# Altium integrated library TI Power Management Lighting and Display.IntLib: 745 symbols (part 43 of 48)
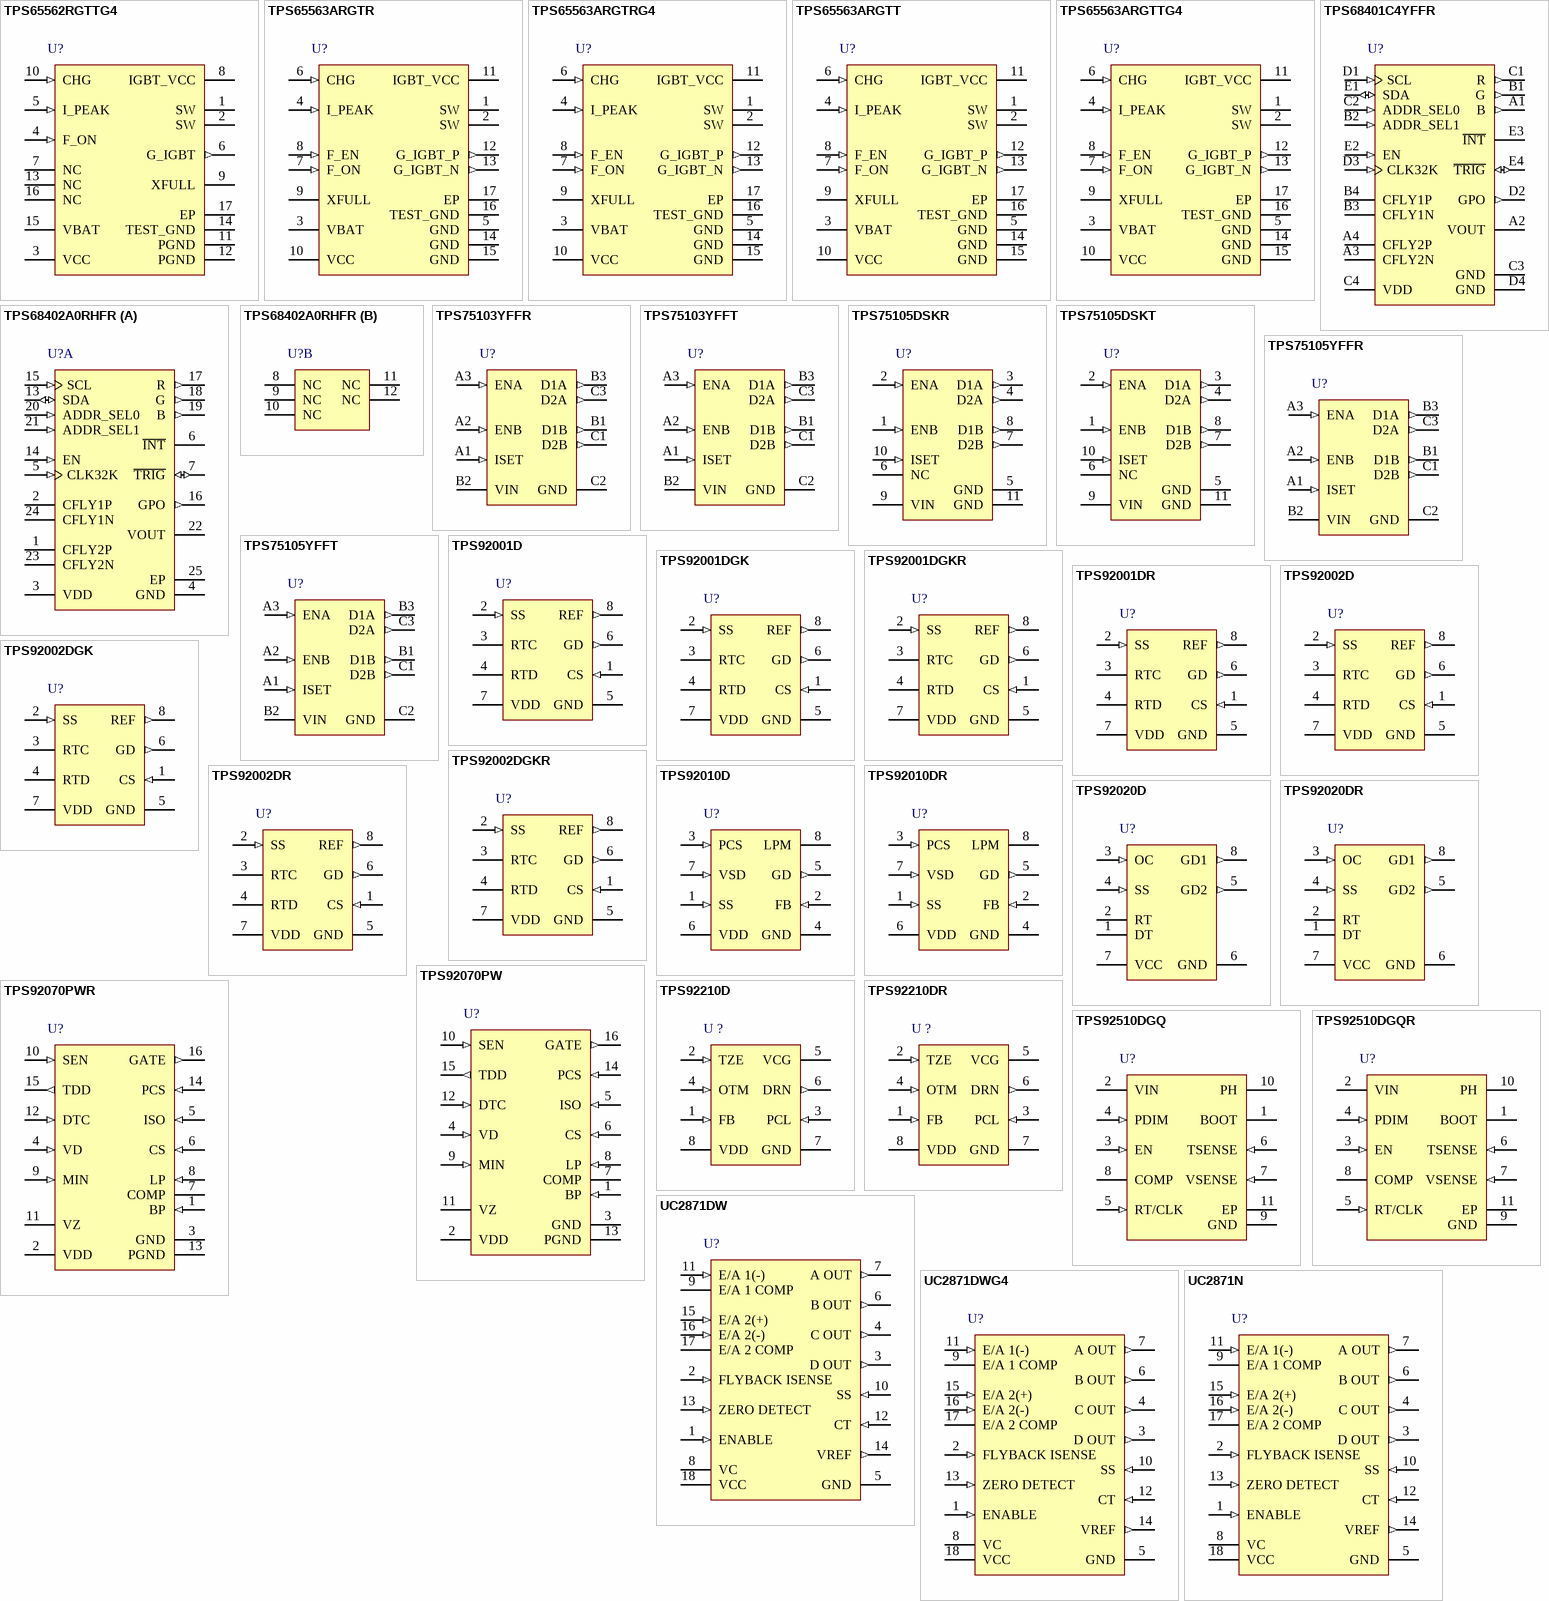
[diagram p73: symbols TPS65562RGTTG4 to UC2871N]

## TPS65562RGTTG4
designator U?
Integrated Photo Flash Charger and IGBT Driver, 2.7 to 4 V, -35 to 85 degC, 16-pin QFN (RGT16), Green (RoHS & no Sb/Br); Manufacturer: Texas Instruments; PartNumber: TPS65562RGTTG4; Rating: Catalog; SubFamily: Photo-Flash Capacitor Charger; Vin(Max)(V): 4; Vin(Min)(V): 2.7; DatasheetVersion: SLVS775; PackageVersion: 4203495/H; PackageReference: RGT16-1650X1650TP; PackageDescription: 16-Pin Plastic Flat Pack, Body 3 x 3 mm, Pitch 0.5 mm; Supplier 1: Digi-Key; Supplier Part Number 1: TPS65562RGTTG4-ND; Supplier 2: Mouser; Supplier Part Number 2: 595-TPS65562RGTTG4; Eco-Plan: Green (RoHS & no Sb/Br); Mounting Technology: Surface Mount; Code_JEDEC: MO-220; ComponentLink1Description: Manufacturer URL; ComponentLink1URL: http://www.ti.com/; ComponentLink2Description: Datasheet; ComponentLink2URL: http://www.ti.com/general/docs/lit/getliterature.tsp?genericPartNumber=TPS65562&fileType=pdf; ComponentLink3Description: Package Specification; ComponentLink3URL: http://www.ti.com/litv/pdf/mpqf119g
footprint TI-RGT16-1650X1650TP_V (QFN, 16-Leads, Body 3x3mm, Pitch 0.5mm, Thermal Pad 1.7x1.7mm)
pins: 1 SW (power) "Primary side switch. Connect SW to the switched side of the transformer", 2 SW (power) "Primary side switch. Connect SW to the switched side of the transformer", 3 VCC (power) "Power supply input. Connect VCC to an input supply from 2.7 V to 4.0 V. Bypass VCC to GND with a 1 uF ceramic capacitor as close as possible to the IC.", 4 F_ON (in) "G_IGBT control input. Drives F_ON with the flash discharge signal. A logic high on F_ON drives G_IGBT high when CHG is Low. See the IGBT driver control section for details.", 5 I_PEAK (in) "Primary side Peak current control input. The voltage at I_PEAK sets the peak current into SW. See the Programming Peak Current section for details on selecting VI_PEAK.", 6 G_IGBT (out) "IGBT gate driver output. G_IGBT swings from PGND to VCC to drive external IGBT devices.", 7 NC "No internal connection", 8 IGBT_VCC (power) "Power supply input for IGBT Driver output. Connect IGBT_VCC to an input supply from 2.7 V to 5.5 V.", 9 XFULL (hiz) "Charge completion indicator output. XFULL is an open-drain output that pulls low once the output is fully charged. XFULL is high impedance during charging and all fault conditions. XFULL is reset when CHG turns Low from High.(See Datasheet)", 10 CHG (in) "Charge control input. Drive CHG high to initiate charging of the output. Drive CHG low to terminate charging.", 11 PGND (power) "Power ground. Connect to the ground plane.", 12 PGND (power) "Power ground. Connect to the ground plane.", 13 NC "No internal connection", 14 TEST_GND (power) "Used by TI, should be connected to PGND and ground plane.", 15 VBAT (power) "Battery voltage monitor input. Connect VBAT to an input supply from 1.6 V to 12 V. Bypass VBAT to GND with a 10 uF ceramic capacitor (C1 in Figure 1 as close as possible to the battery) and a 1 uF ceramic capacitor (C2 in (See Datasheet)", 16 NC "No internal connection", 17 EP "Exposed Thermal Pad"

## TPS65563ARGTR
designator U?
Integrated Photo Flash Charger and IGBT Driver, 2.7 to 5.5 V, -35 to 85 degC, 16-pin QFN (RGT16), Green (RoHS & no Sb/Br); Manufacturer: Texas Instruments; PartNumber: TPS65563ARGTR; Rating: Catalog; SubFamily: Photo-Flash Capacitor Charger; Vin(Max)(V): 5.5; Vin(Min)(V): 2.7; DatasheetVersion: SLVS858A; PackageVersion: 4203495/H; PackageReference: RGT16-1650X1650TP; PackageDescription: 16-Pin Plastic Flat Pack, Body 3 x 3 mm, Pitch 0.5 mm; Supplier 1: Digi-Key; Supplier Part Number 1: 296-23687-2-ND; Supplier 2: Digi-Key; Supplier Part Number 2: 296-23687-1-ND; Supplier 3: Digi-Key; Supplier Part Number 3: 296-23687-6-ND; Supplier 4: Newark; Supplier Part Number 4: 07P9795; Supplier 5: Newark; Supplier Part Number 5: 08P4022; Supplier 6: Mouser; Supplier Part Number 6: 595-TPS65563ARGTR; Eco-Plan: Green (RoHS & no Sb/Br); Mounting Technology: Surface Mount; Code_JEDEC: MO-220; ComponentLink1Description: Manufacturer URL; ComponentLink1URL: http://www.ti.com/; ComponentLink2Description: Datasheet; ComponentLink2URL: http://www.ti.com/general/docs/lit/getliterature.tsp?genericPartNumber=TPS65563A&fileType=pdf; ComponentLink3Description: Package Specification; ComponentLink3URL: http://www.ti.com/litv/pdf/mpqf119g
footprint TI-RGT16-1650X1650TP_V (QFN, 16-Leads, Body 3x3mm, Pitch 0.5mm, Thermal Pad 1.7x1.7mm)
pins: 1 SW (power) "Primary-side power MOSFET switch. Connect SW to the switched side of the transformer.", 2 SW (power) "Primary-side power MOSFET switch. Connect SW to the switched side of the transformer.", 3 VBAT (power) "Battery voltage monitor input for detecting OFF timing of power MOSFET. Connect VBAT to an input voltage from battery. The arrowable range is from 1.4 V to 12 V. Bypass VBAT to GND with a 10-uF ceramic capacitor as close to (See Datasheet)", 4 I_PEAK (in) "Primary-side peak current control input. The voltage at I_PEAK sets the peak current into SW. See the Programming Peak Current section for details on selecting VI_PEAK.", 5 GND (power) "Ground for power and IC internal circuits. Connect to the ground plane.", 6 CHG (in) "Charge enable/disable input. Drive CHG high to start charging the output capacitor. Drive CHG low to terminate charging.", 7 F_ON (in) "Flash enable/disable. High level is xenon flash on with F_EN being high. Low level is xenon flash off even if F_EN is high.", 8 F_EN (in) "Flash acceptable. High level is acceptable to xenon flash on with F_ON pin. Low level forces disable of xenon flash on even if F_ON is high.", 9 XFULL (hiz) "Charge completion indicator. XFULL is an open-drain output that pulls low once the output is fully charged. XFULL is high impedance during charging and all fault conditions. The recovery condition from low to high is to turn (See Datasheet)", 10 VCC (power) "Power supply. VCC is the gate drive supply and IC supply. The allowable range is from 2.7 V to 5.5 V. Bypass VCC to GND with a 1-uF ceramic capacitor as close to the IC as possible.", 11 IGBT_VCC (power) "Power supply for IGBT driver block", 12 G_IGBT_P (out) "IGBT gate driver output for turning on G_IGBT swings from GND to IGBT_VCC to drive external IGBT devices. The external resistor is needed. The value depends on the characteristics of IGBT.", 13 G_IGBT_N (out) "IGBT gate driver output for turning off G_IGBT swings from IGBT_VCC to GND to drive external IGBT devices. The external resistor is needed. The value depends on the characteristics of IGBT.", 14 GND (power) "Ground for power and IC internal circuits. Connect to the ground plane.", 15 GND (power) "Ground for power and IC internal circuits. Connect to the ground plane.", 16 TEST_GND (power) "Used by TI, should be connected to GND and ground plane", 17 EP "Exposed thermal pad"

## TPS65563ARGTRG4
designator U?
Integrated Photo Flash Charger and IGBT Driver, 2.7 to 5.5 V, -35 to 85 degC, 16-pin QFN (RGT16), Green (RoHS & no Sb/Br); Manufacturer: Texas Instruments; PartNumber: TPS65563ARGTRG4; Rating: Catalog; SubFamily: Photo-Flash Capacitor Charger; Vin(Max)(V): 5.5; Vin(Min)(V): 2.7; DatasheetVersion: SLVS858A; PackageVersion: 4203495/H; PackageReference: RGT16-1650X1650TP; PackageDescription: 16-Pin Plastic Flat Pack, Body 3 x 3 mm, Pitch 0.5 mm; Supplier 1: Digi-Key; Supplier Part Number 1: TPS65563ARGTRG4-ND; Supplier 2: Mouser; Supplier Part Number 2: 595-TPS65563ARGTRG4; Eco-Plan: Green (RoHS & no Sb/Br); Mounting Technology: Surface Mount; Code_JEDEC: MO-220; ComponentLink1Description: Manufacturer URL; ComponentLink1URL: http://www.ti.com/; ComponentLink2Description: Datasheet; ComponentLink2URL: http://www.ti.com/general/docs/lit/getliterature.tsp?genericPartNumber=TPS65563A&fileType=pdf; ComponentLink3Description: Package Specification; ComponentLink3URL: http://www.ti.com/litv/pdf/mpqf119g
footprint TI-RGT16-1650X1650TP_V (QFN, 16-Leads, Body 3x3mm, Pitch 0.5mm, Thermal Pad 1.7x1.7mm)
pins: 1 SW (power) "Primary-side power MOSFET switch. Connect SW to the switched side of the transformer.", 2 SW (power) "Primary-side power MOSFET switch. Connect SW to the switched side of the transformer.", 3 VBAT (power) "Battery voltage monitor input for detecting OFF timing of power MOSFET. Connect VBAT to an input voltage from battery. The arrowable range is from 1.4 V to 12 V. Bypass VBAT to GND with a 10-uF ceramic capacitor as close to (See Datasheet)", 4 I_PEAK (in) "Primary-side peak current control input. The voltage at I_PEAK sets the peak current into SW. See the Programming Peak Current section for details on selecting VI_PEAK.", 5 GND (power) "Ground for power and IC internal circuits. Connect to the ground plane.", 6 CHG (in) "Charge enable/disable input. Drive CHG high to start charging the output capacitor. Drive CHG low to terminate charging.", 7 F_ON (in) "Flash enable/disable. High level is xenon flash on with F_EN being high. Low level is xenon flash off even if F_EN is high.", 8 F_EN (in) "Flash acceptable. High level is acceptable to xenon flash on with F_ON pin. Low level forces disable of xenon flash on even if F_ON is high.", 9 XFULL (hiz) "Charge completion indicator. XFULL is an open-drain output that pulls low once the output is fully charged. XFULL is high impedance during charging and all fault conditions. The recovery condition from low to high is to turn (See Datasheet)", 10 VCC (power) "Power supply. VCC is the gate drive supply and IC supply. The allowable range is from 2.7 V to 5.5 V. Bypass VCC to GND with a 1-uF ceramic capacitor as close to the IC as possible.", 11 IGBT_VCC (power) "Power supply for IGBT driver block", 12 G_IGBT_P (out) "IGBT gate driver output for turning on G_IGBT swings from GND to IGBT_VCC to drive external IGBT devices. The external resistor is needed. The value depends on the characteristics of IGBT.", 13 G_IGBT_N (out) "IGBT gate driver output for turning off G_IGBT swings from IGBT_VCC to GND to drive external IGBT devices. The external resistor is needed. The value depends on the characteristics of IGBT.", 14 GND (power) "Ground for power and IC internal circuits. Connect to the ground plane.", 15 GND (power) "Ground for power and IC internal circuits. Connect to the ground plane.", 16 TEST_GND (power) "Used by TI, should be connected to GND and ground plane", 17 EP "Exposed thermal pad"

## TPS65563ARGTT
designator U?
Integrated Photo Flash Charger and IGBT Driver, 2.7 to 5.5 V, -35 to 85 degC, 16-pin QFN (RGT16), Green (RoHS & no Sb/Br); Manufacturer: Texas Instruments; PartNumber: TPS65563ARGTT; Rating: Catalog; SubFamily: Photo-Flash Capacitor Charger; Vin(Max)(V): 5.5; Vin(Min)(V): 2.7; DatasheetVersion: SLVS858A; PackageVersion: 4203495/H; PackageReference: RGT16-1650X1650TP; PackageDescription: 16-Pin Plastic Flat Pack, Body 3 x 3 mm, Pitch 0.5 mm; Supplier 1: Digi-Key; Supplier Part Number 1: 296-32528-2-ND; Supplier 2: Digi-Key; Supplier Part Number 2: 296-32528-1-ND; Supplier 3: Digi-Key; Supplier Part Number 3: 296-32528-6-ND; Supplier 4: Newark; Supplier Part Number 4: 07P9796; Supplier 5: Newark; Supplier Part Number 5: 19P1782; Supplier 6: Mouser; Supplier Part Number 6: 595-TPS65563ARGTT; Eco-Plan: Green (RoHS & no Sb/Br); Mounting Technology: Surface Mount; Code_JEDEC: MO-220; ComponentLink1Description: Manufacturer URL; ComponentLink1URL: http://www.ti.com/; ComponentLink2Description: Datasheet; ComponentLink2URL: http://www.ti.com/general/docs/lit/getliterature.tsp?genericPartNumber=TPS65563A&fileType=pdf; ComponentLink3Description: Package Specification; ComponentLink3URL: http://www.ti.com/litv/pdf/mpqf119g
footprint TI-RGT16-1650X1650TP_V (QFN, 16-Leads, Body 3x3mm, Pitch 0.5mm, Thermal Pad 1.7x1.7mm)
pins: 1 SW (power) "Primary-side power MOSFET switch. Connect SW to the switched side of the transformer.", 2 SW (power) "Primary-side power MOSFET switch. Connect SW to the switched side of the transformer.", 3 VBAT (power) "Battery voltage monitor input for detecting OFF timing of power MOSFET. Connect VBAT to an input voltage from battery. The arrowable range is from 1.4 V to 12 V. Bypass VBAT to GND with a 10-uF ceramic capacitor as close to (See Datasheet)", 4 I_PEAK (in) "Primary-side peak current control input. The voltage at I_PEAK sets the peak current into SW. See the Programming Peak Current section for details on selecting VI_PEAK.", 5 GND (power) "Ground for power and IC internal circuits. Connect to the ground plane.", 6 CHG (in) "Charge enable/disable input. Drive CHG high to start charging the output capacitor. Drive CHG low to terminate charging.", 7 F_ON (in) "Flash enable/disable. High level is xenon flash on with F_EN being high. Low level is xenon flash off even if F_EN is high.", 8 F_EN (in) "Flash acceptable. High level is acceptable to xenon flash on with F_ON pin. Low level forces disable of xenon flash on even if F_ON is high.", 9 XFULL (hiz) "Charge completion indicator. XFULL is an open-drain output that pulls low once the output is fully charged. XFULL is high impedance during charging and all fault conditions. The recovery condition from low to high is to turn (See Datasheet)", 10 VCC (power) "Power supply. VCC is the gate drive supply and IC supply. The allowable range is from 2.7 V to 5.5 V. Bypass VCC to GND with a 1-uF ceramic capacitor as close to the IC as possible.", 11 IGBT_VCC (power) "Power supply for IGBT driver block", 12 G_IGBT_P (out) "IGBT gate driver output for turning on G_IGBT swings from GND to IGBT_VCC to drive external IGBT devices. The external resistor is needed. The value depends on the characteristics of IGBT.", 13 G_IGBT_N (out) "IGBT gate driver output for turning off G_IGBT swings from IGBT_VCC to GND to drive external IGBT devices. The external resistor is needed. The value depends on the characteristics of IGBT.", 14 GND (power) "Ground for power and IC internal circuits. Connect to the ground plane.", 15 GND (power) "Ground for power and IC internal circuits. Connect to the ground plane.", 16 TEST_GND (power) "Used by TI, should be connected to GND and ground plane", 17 EP "Exposed thermal pad"

## TPS65563ARGTTG4
designator U?
Integrated Photo Flash Charger and IGBT Driver, 2.7 to 5.5 V, -35 to 85 degC, 16-pin QFN (RGT16), Green (RoHS & no Sb/Br); Manufacturer: Texas Instruments; PartNumber: TPS65563ARGTTG4; Rating: Catalog; SubFamily: Photo-Flash Capacitor Charger; Vin(Max)(V): 5.5; Vin(Min)(V): 2.7; DatasheetVersion: SLVS858A; PackageVersion: 4203495/H; PackageReference: RGT16-1650X1650TP; PackageDescription: 16-Pin Plastic Flat Pack, Body 3 x 3 mm, Pitch 0.5 mm; Supplier 1: Digi-Key; Supplier Part Number 1: TPS65563ARGTTG4-ND; Supplier 2: Mouser; Supplier Part Number 2: 595-TPS65563ARGTTG4; Eco-Plan: Green (RoHS & no Sb/Br); Mounting Technology: Surface Mount; Code_JEDEC: MO-220; ComponentLink1Description: Manufacturer URL; ComponentLink1URL: http://www.ti.com/; ComponentLink2Description: Datasheet; ComponentLink2URL: http://www.ti.com/general/docs/lit/getliterature.tsp?genericPartNumber=TPS65563A&fileType=pdf; ComponentLink3Description: Package Specification; ComponentLink3URL: http://www.ti.com/litv/pdf/mpqf119g
footprint TI-RGT16-1650X1650TP_V (QFN, 16-Leads, Body 3x3mm, Pitch 0.5mm, Thermal Pad 1.7x1.7mm)
pins: 1 SW (power) "Primary-side power MOSFET switch. Connect SW to the switched side of the transformer.", 2 SW (power) "Primary-side power MOSFET switch. Connect SW to the switched side of the transformer.", 3 VBAT (power) "Battery voltage monitor input for detecting OFF timing of power MOSFET. Connect VBAT to an input voltage from battery. The arrowable range is from 1.4 V to 12 V. Bypass VBAT to GND with a 10-uF ceramic capacitor as close to (See Datasheet)", 4 I_PEAK (in) "Primary-side peak current control input. The voltage at I_PEAK sets the peak current into SW. See the Programming Peak Current section for details on selecting VI_PEAK.", 5 GND (power) "Ground for power and IC internal circuits. Connect to the ground plane.", 6 CHG (in) "Charge enable/disable input. Drive CHG high to start charging the output capacitor. Drive CHG low to terminate charging.", 7 F_ON (in) "Flash enable/disable. High level is xenon flash on with F_EN being high. Low level is xenon flash off even if F_EN is high.", 8 F_EN (in) "Flash acceptable. High level is acceptable to xenon flash on with F_ON pin. Low level forces disable of xenon flash on even if F_ON is high.", 9 XFULL (hiz) "Charge completion indicator. XFULL is an open-drain output that pulls low once the output is fully charged. XFULL is high impedance during charging and all fault conditions. The recovery condition from low to high is to turn (See Datasheet)", 10 VCC (power) "Power supply. VCC is the gate drive supply and IC supply. The allowable range is from 2.7 V to 5.5 V. Bypass VCC to GND with a 1-uF ceramic capacitor as close to the IC as possible.", 11 IGBT_VCC (power) "Power supply for IGBT driver block", 12 G_IGBT_P (out) "IGBT gate driver output for turning on G_IGBT swings from GND to IGBT_VCC to drive external IGBT devices. The external resistor is needed. The value depends on the characteristics of IGBT.", 13 G_IGBT_N (out) "IGBT gate driver output for turning off G_IGBT swings from IGBT_VCC to GND to drive external IGBT devices. The external resistor is needed. The value depends on the characteristics of IGBT.", 14 GND (power) "Ground for power and IC internal circuits. Connect to the ground plane.", 15 GND (power) "Ground for power and IC internal circuits. Connect to the ground plane.", 16 TEST_GND (power) "Used by TI, should be connected to GND and ground plane", 17 EP "Exposed thermal pad"

## TPS68401C4YFFR
designator U?
Multifunction 3-Channel LED Driver, 2.7 to 5.5 V, -30 to 85 degC, 20-pin BGA (YFF20), Green (RoHS & no Sb/Br); Manufacturer: Texas Instruments; PartNumber: TPS68401C4YFFR; Iout(Max)(A): 0.15; Rating: Catalog; SubFamily: White LED Driver; Switching Frequency(Max)(kHz): 1250; Topology: Multi-Channel; Vin(Max)(V): 5.5; Vin(Min)(V): 2.7; DatasheetVersion: SLVSA68A; PackageVersion: 4207625-9/AJ; PackageReference: YFF20; PackageDescription: 20-Ball, Silicon Grid Array, Body Size 2.16 x 1.6 mm, Pitch 0.4 mm; Supplier 1: Digi-Key; Supplier Part Number 1: 296-27427-2-ND; Supplier 2: Digi-Key; Supplier Part Number 2: 296-27427-1-ND; Supplier 3: Digi-Key; Supplier Part Number 3: 296-27427-6-ND; Supplier 4: Mouser; Supplier Part Number 4: 595-TPS68401C4YFFR; Eco-Plan: Green (RoHS & no Sb/Br); Mounting Technology: Surface Mount; ComponentLink1Description: Manufacturer URL; ComponentLink1URL: http://www.ti.com/; ComponentLink2Description: Datasheet; ComponentLink2URL: http://www.ti.com/general/docs/lit/getliterature.tsp?genericPartNumber=TPS68401&fileType=pdf; ComponentLink3Description: Package Specification; ComponentLink3URL: http://www.ti.com/lit/ds/symlink/tps68401.pdf
footprint TI-YFF20-2162X1598DE (BGA, 20-Balls, Body 2.162x1.598mm, Pitch 0.4mm)
pins: A1 B (out) "Current source output, Channel 3 (Blue)", A2 VOUT (power) "Charge pump output", A3 CFLY2N "Negative terminal of charge pump fly capacitor", A4 CFLY2P "Positive terminal of charge pump fly capacitor", B1 G (out) "Current source output, Channel 2 (Green)", B2 ADDR_SEL1 (in) "I2C address select input", B3 CFLY1N "Negative terminal of charge pump fly capacitor", B4 CFLY1P "Positive terminal of charge pump fly capacitor", C1 R (out) "Current source output, Channel 1 (Red)", C2 ADDR_SEL0 (in) "I2C address select input", C3 GND (power) "Ground", C4 VDD (power) "Power pin", D1 SCL (in) "I2C Serial interface clock input", D2 GPO (out) "General purpose output", D3 CLK32K (in) "32.768-kHz clock input - If no clock present on power-up or after RESET, uses internal oscillator", D4 GND (power) "Ground", E1 SDA (io) "I2C Serial interface data input/output (open drain)", E2 EN (in) "Chip enable (active high)", E3 ~{INT} (hiz) "Interrupt output (open drain, active low); Can be configured as push-pull GPO", E4 ~{TRIG} (io) "Trigger input / output (open drain, active low)"

## TPS68402A0RHFR
designator U?
Multifunction 3-Channel LED Driver, 2.7 to 5.5 V, -30 to 85 degC, 24-pin QFN (RHF24), Green (RoHS & no Sb/Br); Manufacturer: Texas Instruments; PartNumber: TPS68402A0RHFR; Iout(Max)(A): 0.15; Rating: Catalog; SubFamily: White LED Driver; Switching Frequency(Max)(kHz): 1250; Topology: Multi-Channel; Vin(Max)(V): 5.5; Vin(Min)(V): 2.7; DatasheetVersion: SLVSA68A; PackageVersion: 4204845-2/H; PackageReference: RHF24-3650X2650TP; PackageDescription: 24-Pin Plastic Flat Pack, Body 4 x 5 mm, Pitch 0.5 mm; Supplier 1: Digi-Key; Supplier Part Number 1: 296-27428-2-ND; Supplier 2: Digi-Key; Supplier Part Number 2: 296-27428-1-ND; Supplier 3: Digi-Key; Supplier Part Number 3: 296-27428-6-ND; Supplier 4: Newark; Supplier Part Number 4: 79R8599; Supplier 5: Mouser; Supplier Part Number 5: 595-TPS68402A0RHFR; Eco-Plan: Green (RoHS & no Sb/Br); Mounting Technology: Surface Mount; Code_JEDEC: MO-220; ComponentLink1Description: Manufacturer URL; ComponentLink1URL: http://www.ti.com/; ComponentLink2Description: Datasheet; ComponentLink2URL: http://www.ti.com/general/docs/lit/getliterature.tsp?genericPartNumber=TPS68402&fileType=pdf; ComponentLink3Description: Package Specification; ComponentLink3URL: http://www.ti.com/litv/pdf/mpqf137g
footprint TI-RHF24-3650X2650TP_V (QFN, 24-Leads, Body 5x4mm, Pitch 0.5mm, Thermal Pad 3.65x2.65mm)
part A pins: 1 CFLY2P "Positive terminal of charge pump fly capacitor", 2 CFLY1P "Positive terminal of charge pump fly capacitor", 3 VDD (power) "Power pin", 4 GND (power) "Ground", 5 CLK32K (in) "32.768-kHz clock input. If no clock present on power-up or after RESET, uses internal oscillator.", 6 ~{INT} (hiz) "Interrupt output (open drain, active low); Can be configured as push-pull GPO.", 7 ~{TRIG} (io) "Trigger input/output (open drain, active low)", 13 SDA (io) "I2C Serial interface data input/output (open drain)", 14 EN (in) "Chip enable (active high)", 15 SCL (in) "I2C Serial interface clock input", 16 GPO (out) "General purpose output.", 17 R (out) "Current source output, Channel 1 (Red)", 18 G (out) "Current source output, Channel 2 (Green)", 19 B (out) "Current source output, Channel 3 (Blue)", 20 ADDR_SEL0 (in) "I2C address select input", 21 ADDR_SEL1 (in) "I2C address select input", 22 VOUT (power) "Charge pump output", 23 CFLY2N "Negative terminal of charge pump fly capacitor", 24 CFLY1N "Negative terminal of charge pump fly capacitor", 25 EP "Exposed Pad"
part B pins: 8 NC "Not connected", 9 NC "Not connected", 10 NC "Not connected", 11 NC "Not connected", 12 NC "Not connected"

## TPS75103YFFR
designator U?
Low Dropout, Two-Bank LED Driver with PWM Brightness Control, 2.7 to 5.5 V, 9-pin BGA (YFF9), Green (RoHS & no Sb/Br); Manufacturer: Texas Instruments; PartNumber: TPS75103YFFR; Dimming: TRUE; Iout(Max)(A): 0.025; Iq(Typ)(mA): 0.18; SubFamily: White LED Driver; Topology: LDO; Vin(Max)(V): 5.5; Vin(Min)(V): 2.7; DatasheetVersion: SBVS080H; PackageVersion: 4207625-6/AK; PackageReference: YFF9; PackageDescription: 9-Ball, Silicon Grid Array, Body Size 1.21 x 1.21 mm, Pitch 0.4 mm; Supplier 1: Digi-Key; Supplier Part Number 1: 296-21284-2-ND; Supplier 2: Digi-Key; Supplier Part Number 2: 296-21284-1-ND; Supplier 3: Mouser; Supplier Part Number 3: 595-TPS75103YFFR; Eco-Plan: Green (RoHS & no Sb/Br); Mounting Technology: Surface Mount; ComponentLink1Description: Manufacturer URL; ComponentLink1URL: http://www.ti.com/; ComponentLink2Description: Datasheet; ComponentLink2URL: http://www.ti.com/general/docs/lit/getliterature.tsp?genericPartNumber=TPS75103&fileType=pdf; ComponentLink3Description: Package Specification; ComponentLink3URL: http://www.ti.com/lit/ds/symlink/tps75105.pdf
footprint TI-YFF9-1208X1208DE (BGA, 9-Balls, Body 1.208x1.208mm, Pitch 0.4mm)
pins: A1 ISET (in) "An optional resistor can be connected between this pin and GND to set the ISET maximum current through the LEDs. If no resistor is connected, ISET defaults to the internally-programmed value.", A2 ENB (in) "Enable pin, Bank B. Driving this pin high turns on the current source to Bank B outputs. Driving this pin low turns off the current source to Bank B outputs. An applied PWM signal reduces the LED current (between 0mA and the (See Datasheet)", A3 ENA (in) "Enable pin, Bank A. Driving this pin high turns on the current source to Bank A outputs. Driving this pin low turns off the current source to Bank A outputs. An applied PWM signal reduces the LED current (between 0mA and the (See Datasheet)", B1 D1B (out) "Diode source current output, Bank B. Connect to LED anode.", B2 VIN (power) "Supply Input", B3 D1A (out) "Diode source current output, Bank A. Connect to LED anode.", C1 D2B (out) "Diode source current output, Bank B. Connect to LED anode.", C2 GND (power) "Ground", C3 D2A (out) "Diode source current output, Bank A. Connect to LED anode."

## TPS75103YFFT
designator U?
Low Dropout, Two-Bank LED Driver with PWM Brightness Control, 2.7 to 5.5 V, 9-pin BGA (YFF9), Green (RoHS & no Sb/Br); Manufacturer: Texas Instruments; PartNumber: TPS75103YFFT; Dimming: TRUE; Iout(Max)(A): 0.025; Iq(Typ)(mA): 0.18; SubFamily: White LED Driver; Topology: LDO; Vin(Max)(V): 5.5; Vin(Min)(V): 2.7; DatasheetVersion: SBVS080H; PackageVersion: 4207625-6/AK; PackageReference: YFF9; PackageDescription: 9-Ball, Silicon Grid Array, Body Size 1.21 x 1.21 mm, Pitch 0.4 mm; Supplier 1: Digi-Key; Supplier Part Number 1: TPS75103YFFT-ND; Supplier 2: Newark; Supplier Part Number 2: 20M5905; Supplier 3: Mouser; Supplier Part Number 3: 595-TPS75103YFFT; Eco-Plan: Green (RoHS & no Sb/Br); Mounting Technology: Surface Mount; ComponentLink1Description: Manufacturer URL; ComponentLink1URL: http://www.ti.com/; ComponentLink2Description: Datasheet; ComponentLink2URL: http://www.ti.com/general/docs/lit/getliterature.tsp?genericPartNumber=TPS75103&fileType=pdf; ComponentLink3Description: Package Specification; ComponentLink3URL: http://www.ti.com/lit/ds/symlink/tps75105.pdf
footprint TI-YFF9-1208X1208DE (BGA, 9-Balls, Body 1.208x1.208mm, Pitch 0.4mm)
pins: A1 ISET (in) "An optional resistor can be connected between this pin and GND to set the ISET maximum current through the LEDs. If no resistor is connected, ISET defaults to the internally-programmed value.", A2 ENB (in) "Enable pin, Bank B. Driving this pin high turns on the current source to Bank B outputs. Driving this pin low turns off the current source to Bank B outputs. An applied PWM signal reduces the LED current (between 0mA and the (See Datasheet)", A3 ENA (in) "Enable pin, Bank A. Driving this pin high turns on the current source to Bank A outputs. Driving this pin low turns off the current source to Bank A outputs. An applied PWM signal reduces the LED current (between 0mA and the (See Datasheet)", B1 D1B (out) "Diode source current output, Bank B. Connect to LED anode.", B2 VIN (power) "Supply Input", B3 D1A (out) "Diode source current output, Bank A. Connect to LED anode.", C1 D2B (out) "Diode source current output, Bank B. Connect to LED anode.", C2 GND (power) "Ground", C3 D2A (out) "Diode source current output, Bank A. Connect to LED anode."

## TPS75105DSKR
designator U?
Low Dropout, Two-Bank LED Driver with PWM Brightness Control, 2.7 to 5.5 V, -40 to 85 degC, 10-pin SON (DSK10), Green (RoHS & no Sb/Br); Manufacturer: Texas Instruments; PartNumber: TPS75105DSKR; Dimming: TRUE; Iout(Max)(A): 0.025; Iq(Typ)(mA): 0.18; SubFamily: White LED Driver; Topology: LDO; Vin(Max)(V): 5.5; Vin(Min)(V): 2.7; DatasheetVersion: SBVS080H; PackageVersion: 4208566/A; PackageReference: DSK10-2000X1200TP; PackageDescription: 10-Pin Plastic Small Outline, Body 2.5 x 2.5 mm, 0.5 mm Pitch; Supplier 1: Digi-Key; Supplier Part Number 1: TPS75105DSKR-ND; Supplier 2: Mouser; Supplier Part Number 2: 595-TPS75105DSKR; Eco-Plan: Green (RoHS & no Sb/Br); Mounting Technology: Surface Mount; ComponentLink1Description: Manufacturer URL; ComponentLink1URL: http://www.ti.com/; ComponentLink2Description: Datasheet; ComponentLink2URL: http://www.ti.com/general/docs/lit/getliterature.tsp?genericPartNumber=TPS75105&fileType=pdf; ComponentLink3Description: Package Specification; ComponentLink3URL: http://www.ti.com/lit/ml/mpds326/mpds326.pdf
footprint TI-DSK10-2000X1200TP_V (SON, 10-Leads, Body 2.5x2.5mm, Pitch 0.5mm, Thermal Pad 1.2X2.0mm)
pins: 1 ENB (in) "Enable pin, Bank B. Driving this pin high turns on the current source to Bank B outputs. Driving this pin low turns off the current source to Bank B outputs. An applied PWM signal reduces the LED current (between 0mA and the (See Datasheet)", 2 ENA (in) "Enable pin, Bank A. Driving this pin high turns on the current source to Bank A outputs. Driving this pin low turns off the current source to Bank A outputs. An applied PWM signal reduces the LED current (between 0mA and the (See Datasheet)", 3 D1A (out) "Diode source current output, Bank A. Connect to LED anode", 4 D2A (out) "Diode source current output, Bank A. Connect to LED anode", 5 GND (power) "Ground", 6 NC "Not connected.", 7 D2B (out) "Diode source current output, Bank B. Connect to LED anode.", 8 D1B (out) "Diode source current output, Bank B. Connect to LED anode.", 9 VIN (power) "Supply Input", 10 ISET (in) "An optional resistor can be connected between this pin and GND to set the maximum current through the LEDs. If no resistor is connected, ISET defaults to the internally-programmed value.", 11 GND (power) "Ground"

## TPS75105DSKT
designator U?
Low Dropout, Two-Bank LED Driver with PWM Brightness Control, 2.7 to 5.5 V, -40 to 85 degC, 10-pin SON (DSK10), Green (RoHS & no Sb/Br); Manufacturer: Texas Instruments; PartNumber: TPS75105DSKT; Dimming: TRUE; Iout(Max)(A): 0.025; Iq(Typ)(mA): 0.18; SubFamily: White LED Driver; Topology: LDO; Vin(Max)(V): 5.5; Vin(Min)(V): 2.7; DatasheetVersion: SBVS080H; PackageVersion: 4208566/A; PackageReference: DSK10-2000X1200TP; PackageDescription: 10-Pin Plastic Small Outline, Body 2.5 x 2.5 mm, 0.5 mm Pitch; Supplier 1: Digi-Key; Supplier Part Number 1: 296-28057-2-ND; Supplier 2: Digi-Key; Supplier Part Number 2: 296-28057-1-ND; Supplier 3: Digi-Key; Supplier Part Number 3: 296-28057-6-ND; Supplier 4: Newark; Supplier Part Number 4: 64R0789; Supplier 5: Mouser; Supplier Part Number 5: 595-TPS75105DSKT; Eco-Plan: Green (RoHS & no Sb/Br); Mounting Technology: Surface Mount; ComponentLink1Description: Manufacturer URL; ComponentLink1URL: http://www.ti.com/; ComponentLink2Description: Datasheet; ComponentLink2URL: http://www.ti.com/general/docs/lit/getliterature.tsp?genericPartNumber=TPS75105&fileType=pdf; ComponentLink3Description: Package Specification; ComponentLink3URL: http://www.ti.com/lit/ml/mpds326/mpds326.pdf
footprint TI-DSK10-2000X1200TP_V (SON, 10-Leads, Body 2.5x2.5mm, Pitch 0.5mm, Thermal Pad 1.2X2.0mm)
pins: 1 ENB (in) "Enable pin, Bank B. Driving this pin high turns on the current source to Bank B outputs. Driving this pin low turns off the current source to Bank B outputs. An applied PWM signal reduces the LED current (between 0mA and the (See Datasheet)", 2 ENA (in) "Enable pin, Bank A. Driving this pin high turns on the current source to Bank A outputs. Driving this pin low turns off the current source to Bank A outputs. An applied PWM signal reduces the LED current (between 0mA and the (See Datasheet)", 3 D1A (out) "Diode source current output, Bank A. Connect to LED anode", 4 D2A (out) "Diode source current output, Bank A. Connect to LED anode", 5 GND (power) "Ground", 6 NC "Not connected.", 7 D2B (out) "Diode source current output, Bank B. Connect to LED anode.", 8 D1B (out) "Diode source current output, Bank B. Connect to LED anode.", 9 VIN (power) "Supply Input", 10 ISET (in) "An optional resistor can be connected between this pin and GND to set the maximum current through the LEDs. If no resistor is connected, ISET defaults to the internally-programmed value.", 11 GND (power) "Ground"

## TPS75105YFFR
designator U?
Low Dropout, Two-Bank LED Driver with PWM Brightness Control, 2.7 to 5.5 V, -40 to 85 degC, 9-pin BGA (YFF9), Green (RoHS & no Sb/Br); Manufacturer: Texas Instruments; PartNumber: TPS75105YFFR; Dimming: TRUE; Iout(Max)(A): 0.025; Iq(Typ)(mA): 0.18; SubFamily: White LED Driver; Topology: LDO; Vin(Max)(V): 5.5; Vin(Min)(V): 2.7; DatasheetVersion: SBVS080H; PackageVersion: 4207625-6/AK; PackageReference: YFF9; PackageDescription: 9-Ball, Silicon Grid Array, Body Size 1.21 x 1.21 mm, Pitch 0.4 mm; Supplier 1: Digi-Key; Supplier Part Number 1: 296-20790-2-ND; Supplier 2: Digi-Key; Supplier Part Number 2: 296-20790-1-ND; Supplier 3: Newark; Supplier Part Number 3: 18M3234; Supplier 4: Mouser; Supplier Part Number 4: 595-TPS75105YFFR; Eco-Plan: Green (RoHS & no Sb/Br); Mounting Technology: Surface Mount; ComponentLink1Description: Manufacturer URL; ComponentLink1URL: http://www.ti.com/; ComponentLink2Description: Datasheet; ComponentLink2URL: http://www.ti.com/general/docs/lit/getliterature.tsp?genericPartNumber=TPS75105&fileType=pdf; ComponentLink3Description: Package Specification; ComponentLink3URL: http://www.ti.com/lit/ds/symlink/tps75105.pdf
footprint TI-YFF9-1208X1208DE (BGA, 9-Balls, Body 1.208x1.208mm, Pitch 0.4mm)
pins: A1 ISET (in) "An optional resistor can be connected between this pin and GND to set the ISET maximum current through the LEDs. If no resistor is connected, ISET defaults to the internally-programmed value.", A2 ENB (in) "Enable pin, Bank B. Driving this pin high turns on the current source to Bank B outputs. Driving this pin low turns off the current source to Bank B outputs. An applied PWM signal reduces the LED current (between 0mA and the (See Datasheet)", A3 ENA (in) "Enable pin, Bank A. Driving this pin high turns on the current source to Bank A outputs. Driving this pin low turns off the current source to Bank A outputs. An applied PWM signal reduces the LED current (between 0mA and the (See Datasheet)", B1 D1B (out) "Diode source current output, Bank B. Connect to LED anode.", B2 VIN (power) "Supply Input", B3 D1A (out) "Diode source current output, Bank A. Connect to LED anode.", C1 D2B (out) "Diode source current output, Bank B. Connect to LED anode.", C2 GND (power) "Ground", C3 D2A (out) "Diode source current output, Bank A. Connect to LED anode."

## TPS75105YFFT
designator U?
Low Dropout, Two-Bank LED Driver with PWM Brightness Control, 2.7 to 5.5 V, -40 to 85 degC, 9-pin BGA (YFF9), Green (RoHS & no Sb/Br); Manufacturer: Texas Instruments; PartNumber: TPS75105YFFT; Dimming: TRUE; Iout(Max)(A): 0.025; Iq(Typ)(mA): 0.18; SubFamily: White LED Driver; Topology: LDO; Vin(Max)(V): 5.5; Vin(Min)(V): 2.7; DatasheetVersion: SBVS080H; PackageVersion: 4207625-6/AK; PackageReference: YFF9; PackageDescription: 9-Ball, Silicon Grid Array, Body Size 1.21 x 1.21 mm, Pitch 0.4 mm; Supplier 1: Digi-Key; Supplier Part Number 1: TPS75105YFFT-ND; Supplier 2: Farnell; Supplier Part Number 2: 1563522; Supplier 3: Newark; Supplier Part Number 3: 18M3235; Supplier 4: Mouser; Supplier Part Number 4: 595-TPS75105YFFT; Eco-Plan: Green (RoHS & no Sb/Br); Mounting Technology: Surface Mount; ComponentLink1Description: Manufacturer URL; ComponentLink1URL: http://www.ti.com/; ComponentLink2Description: Datasheet; ComponentLink2URL: http://www.ti.com/general/docs/lit/getliterature.tsp?genericPartNumber=TPS75105&fileType=pdf; ComponentLink3Description: Package Specification; ComponentLink3URL: http://www.ti.com/lit/ds/symlink/tps75105.pdf
footprint TI-YFF9-1208X1208DE (BGA, 9-Balls, Body 1.208x1.208mm, Pitch 0.4mm)
pins: A1 ISET (in) "An optional resistor can be connected between this pin and GND to set the ISET maximum current through the LEDs. If no resistor is connected, ISET defaults to the internally-programmed value.", A2 ENB (in) "Enable pin, Bank B. Driving this pin high turns on the current source to Bank B outputs. Driving this pin low turns off the current source to Bank B outputs. An applied PWM signal reduces the LED current (between 0mA and the (See Datasheet)", A3 ENA (in) "Enable pin, Bank A. Driving this pin high turns on the current source to Bank A outputs. Driving this pin low turns off the current source to Bank A outputs. An applied PWM signal reduces the LED current (between 0mA and the (See Datasheet)", B1 D1B (out) "Diode source current output, Bank B. Connect to LED anode.", B2 VIN (power) "Supply Input", B3 D1A (out) "Diode source current output, Bank A. Connect to LED anode.", C1 D2B (out) "Diode source current output, Bank B. Connect to LED anode.", C2 GND (power) "Ground", C3 D2A (out) "Diode source current output, Bank A. Connect to LED anode."

## TPS92001D
designator U?
General Purpose PWM Controller with 10V Turn-on Threshold for LED Lighting, -40 to 85 degC, 8-pin SOIC (D8), Green (RoHS & no Sb/Br); Manufacturer: Texas Instruments; PartNumber: TPS92001D; Frequency(Max)(kHz): 1000; Rating: Catalog; SubFamily: LED Driver, Lighting and Display Solutions, White LED Driver; Topology: Flyback; DatasheetVersion: SLUSA24A; PackageVersion: 4040047-3/M; PackageReference: D8; PackageDescription: 8-Pin Plastic Small Outline, Body 4.9 x 3.9 mm, Pitch 1.27 mm; Supplier 1: Digi-Key; Supplier Part Number 1: TPS92001D-ND; Supplier 2: Newark; Supplier Part Number 2: 72R6682; Supplier 3: Mouser; Supplier Part Number 3: 595-TPS92001D; Eco-Plan: Green (RoHS & no Sb/Br); Mounting Technology: Surface Mount; Code_JEDEC: MS-012; ComponentLink1Description: Manufacturer URL; ComponentLink1URL: http://www.ti.com/; ComponentLink2Description: Datasheet; ComponentLink2URL: http://www.ti.com/general/docs/lit/getliterature.tsp?genericPartNumber=TPS92001&fileType=pdf; ComponentLink3Description: Package Specification; ComponentLink3URL: http://www.ti.com/litv/pdf/msoi002j
footprint TI-D8_N (SOIC, 8-Leads, Body 4.9x3.9mm, Pitch 1.27mm, IPC Medium Density)
footprint TI-D8_L (SOIC, 8-Leads, Body 4.9x3.9mm, Pitch 1.27mm, IPC High Density)
footprint TI-D8_M (SOIC, 8-Leads, Body 4.9x3.9mm, Pitch 1.27mm, IPC Low Density)
pins: 1 CS (in) "This pin is the summing node for current sense feedback, voltage sense feedback (by optocoupler) and slope compensation. Slope compensation is derived from the rising voltage at the timing capacitor and can be buffered with (See Datasheet)", 2 SS (in) "This pin serves two functions. The soft start timing capacitor connects to SS and is charged by an internal 6-µA current source. Under normal soft-start, the SS pin is discharged to at least 0.4 V and then ramps positive to (See Datasheet)", 3 RTC "This pin connects to timing resistor RRTC , and controls the positive ramp (rise) time of the internal oscillator (see Equation 1). The positive threshold of the internal oscillator is sensed through inactive timing resistor (See Datasheet)", 4 RTD "This pin connects to timing resistor RTD and controls the negative ramp (fall) time of the internal oscillator (see Equation 2). The negative threshold of the internal oscillator is sensed through inactive timing resistor (See Datasheet)", 5 GND (power) "Reference ground and power ground for all functions.", 6 GD (out) "This pin is the high current power driver output. A minimum series gate resistor of 3.9 ohm is recommended to limit the gate drive current when operating with high-bias voltages.", 7 VDD (power) "The power input connection for this device. This pin is shunt regulated at 17.5 V which is sufficiently below the voltage rating of the DMOS output driver stage. VDD should be bypassed with a 1-uF ceramic capacitor.", 8 REF (out) "The internal 5-V reference output. This reference is buffered and is available on the REF pin. The REF pin should be bypassed with a 0.47-uF ceramic capacitor to GND."

## TPS92001DGK
designator U?
General Purpose PWM Controller with 10V Turn-on Threshold for LED Lighting, -40 to 85 degC, 8-pin SOP (DGK8), Green (RoHS & no Sb/Br); Manufacturer: Texas Instruments; PartNumber: TPS92001DGK; Frequency(Max)(kHz): 1000; Rating: Catalog; SubFamily: LED Driver, Lighting and Display Solutions, White LED Driver; Topology: Flyback; DatasheetVersion: SLUSA24A; PackageVersion: 4073329/E; PackageReference: DGK8; PackageDescription: 8-Pin Thin Small Outline Package 3 x 3 mm Body ,0.65 mm Pitch; Supplier 1: Digi-Key; Supplier Part Number 1: 296-34657-5-ND; Supplier 2: Newark; Supplier Part Number 2: 72R6683; Supplier 3: Mouser; Supplier Part Number 3: 595-TPS92001DGK; Eco-Plan: Green (RoHS & no Sb/Br); Mounting Technology: Surface Mount; Code_JEDEC: MO-187; ComponentLink1Description: Manufacturer URL; ComponentLink1URL: http://www.ti.com/; ComponentLink2Description: Datasheet; ComponentLink2URL: http://www.ti.com/general/docs/lit/getliterature.tsp?genericPartNumber=TPS92001&fileType=pdf; ComponentLink3Description: Package Specification; ComponentLink3URL: http://www.ti.com/litv/pdf/mpds028d
footprint TI-DGK8_N (SOP, 8-Leads, Body 3x3mm, Pitch 0.65mm, IPC Medium Density)
footprint TI-DGK8_L (SOP, 8-Leads, Body 3x3mm, Pitch 0.65mm, IPC High Density)
footprint TI-DGK8_M (SOP, 8-Leads, Body 3x3mm, Pitch 0.65mm, IPC Low Density)
pins: 1 CS (in) "This pin is the summing node for current sense feedback, voltage sense feedback (by optocoupler) and slope compensation. Slope compensation is derived from the rising voltage at the timing capacitor and can be buffered with (See Datasheet)", 2 SS (in) "This pin serves two functions. The soft start timing capacitor connects to SS and is charged by an internal 6-uA current source. Under normal soft-start, the SS pin is discharged to at least 0.4 V and then ramps positive to (See Datasheet)", 3 RTC "This pin connects to timing resistor RRTC , and controls the positive ramp (rise) time of the internal oscillator. The positive threshold of the internal oscillator is sensed through inactive timing resistor RRTD which RTC 3 (See Datasheet)", 4 RTD "This pin connects to timing resistor RTD and controls the negative ramp (fall) time of the internal oscillator.The negative threshold of the internal oscillator is sensed through inactive timing resistor RRTC which RTD 4 I (See Datasheet)", 5 GND (power) "Reference ground and power ground for all functions.", 6 GD (out) "This pin is the high current power driver output. A minimum series gate resistor of 3.9 ohm is recommended to limit the gate drive current when operating with high-bias voltages.", 7 VDD (power) "The power input connection for this device. This pin is shunt regulated at 17.5 V which is sufficiently below the voltage rating of the DMOS output driver stage. VDD should be bypassed with a 1-uF ceramic capacitor.", 8 REF (out) "The internal 5-V reference output. This reference is buffered and is available on the REF pin. The REF pin should be bypassed with a 0.47-uF ceramic capacitor to GND."

## TPS92001DGKR
designator U?
General Purpose PWM Controller with 10V Turn-on Threshold for LED Lighting, -40 to 85 degC, 8-pin SOP (DGK8), Green (RoHS & no Sb/Br); Manufacturer: Texas Instruments; PartNumber: TPS92001DGKR; Frequency(Max)(kHz): 1000; Rating: Catalog; SubFamily: LED Driver, Lighting and Display Solutions, White LED Driver; Topology: Flyback; DatasheetVersion: SLUSA24A; PackageVersion: 4073329/E; PackageReference: DGK8; PackageDescription: 8-Pin Thin Small Outline Package 3 x 3 mm Body ,0.65 mm Pitch; Supplier 1: Digi-Key; Supplier Part Number 1: 296-25886-2-ND; Supplier 2: Digi-Key; Supplier Part Number 2: 296-25886-1-ND; Supplier 3: Digi-Key; Supplier Part Number 3: 296-25886-6-ND; Supplier 4: Newark; Supplier Part Number 4: 72R6684; Supplier 5: Mouser; Supplier Part Number 5: 595-TPS92001DGKR; Eco-Plan: Green (RoHS & no Sb/Br); Mounting Technology: Surface Mount; Code_JEDEC: MO-187; ComponentLink1Description: Manufacturer URL; ComponentLink1URL: http://www.ti.com/; ComponentLink2Description: Datasheet; ComponentLink2URL: http://www.ti.com/general/docs/lit/getliterature.tsp?genericPartNumber=TPS92001&fileType=pdf; ComponentLink3Description: Package Specification; ComponentLink3URL: http://www.ti.com/litv/pdf/mpds028d
footprint TI-DGK8_N (SOP, 8-Leads, Body 3x3mm, Pitch 0.65mm, IPC Medium Density)
footprint TI-DGK8_L (SOP, 8-Leads, Body 3x3mm, Pitch 0.65mm, IPC High Density)
footprint TI-DGK8_M (SOP, 8-Leads, Body 3x3mm, Pitch 0.65mm, IPC Low Density)
pins: 1 CS (in) "This pin is the summing node for current sense feedback, voltage sense feedback (by optocoupler) and slope compensation. Slope compensation is derived from the rising voltage at the timing capacitor and can be buffered with (See Datasheet)", 2 SS (in) "This pin serves two functions. The soft start timing capacitor connects to SS and is charged by an internal 6-uA current source. Under normal soft-start, the SS pin is discharged to at least 0.4 V and then ramps positive to (See Datasheet)", 3 RTC "This pin connects to timing resistor RRTC , and controls the positive ramp (rise) time of the internal oscillator. The positive threshold of the internal oscillator is sensed through inactive timing resistor RRTD which RTC 3 (See Datasheet)", 4 RTD "This pin connects to timing resistor RTD and controls the negative ramp (fall) time of the internal oscillator.The negative threshold of the internal oscillator is sensed through inactive timing resistor RRTC which RTD 4 I (See Datasheet)", 5 GND (power) "Reference ground and power ground for all functions.", 6 GD (out) "This pin is the high current power driver output. A minimum series gate resistor of 3.9 ohm is recommended to limit the gate drive current when operating with high-bias voltages.", 7 VDD (power) "The power input connection for this device. This pin is shunt regulated at 17.5 V which is sufficiently below the voltage rating of the DMOS output driver stage. VDD should be bypassed with a 1-uF ceramic capacitor.", 8 REF (out) "The internal 5-V reference output. This reference is buffered and is available on the REF pin. The REF pin should be bypassed with a 0.47-uF ceramic capacitor to GND."

## TPS92001DR
designator U?
General Purpose PWM Controller with 10V Turn-on Threshold for LED Lighting, -40 to 85 degC, 8-pin SOIC (D8), Green (RoHS & no Sb/Br); Manufacturer: Texas Instruments; PartNumber: TPS92001DR; Frequency(Max)(kHz): 1000; Rating: Catalog; SubFamily: LED Driver, Lighting and Display Solutions, White LED Driver; Topology: Flyback; DatasheetVersion: SLUSA24A; PackageVersion: 4040047-3/M; PackageReference: D8; PackageDescription: 8-Pin Plastic Small Outline, Body 4.9 x 3.9 mm, Pitch 1.27 mm; Supplier 1: Digi-Key; Supplier Part Number 1: 296-25887-2-ND; Supplier 2: Digi-Key; Supplier Part Number 2: 296-25887-1-ND; Supplier 3: Digi-Key; Supplier Part Number 3: 296-25887-6-ND; Supplier 4: Newark; Supplier Part Number 4: 72R6685; Supplier 5: Mouser; Supplier Part Number 5: 595-TPS92001DR; Eco-Plan: Green (RoHS & no Sb/Br); Mounting Technology: Surface Mount; Code_JEDEC: MS-012; ComponentLink1Description: Manufacturer URL; ComponentLink1URL: http://www.ti.com/; ComponentLink2Description: Datasheet; ComponentLink2URL: http://www.ti.com/general/docs/lit/getliterature.tsp?genericPartNumber=TPS92001&fileType=pdf; ComponentLink3Description: Package Specification; ComponentLink3URL: http://www.ti.com/litv/pdf/msoi002j
footprint TI-D8_N (SOIC, 8-Leads, Body 4.9x3.9mm, Pitch 1.27mm, IPC Medium Density)
footprint TI-D8_L (SOIC, 8-Leads, Body 4.9x3.9mm, Pitch 1.27mm, IPC High Density)
footprint TI-D8_M (SOIC, 8-Leads, Body 4.9x3.9mm, Pitch 1.27mm, IPC Low Density)
pins: 1 CS (in) "This pin is the summing node for current sense feedback, voltage sense feedback (by optocoupler) and slope compensation. Slope compensation is derived from the rising voltage at the timing capacitor and can be buffered with (See Datasheet)", 2 SS (in) "This pin serves two functions. The soft start timing capacitor connects to SS and is charged by an internal 6-µA current source. Under normal soft-start, the SS pin is discharged to at least 0.4 V and then ramps positive to (See Datasheet)", 3 RTC "This pin connects to timing resistor RRTC , and controls the positive ramp (rise) time of the internal oscillator (see Equation 1). The positive threshold of the internal oscillator is sensed through inactive timing resistor (See Datasheet)", 4 RTD "This pin connects to timing resistor RTD and controls the negative ramp (fall) time of the internal oscillator (see Equation 2). The negative threshold of the internal oscillator is sensed through inactive timing resistor (See Datasheet)", 5 GND (power) "Reference ground and power ground for all functions.", 6 GD (out) "This pin is the high current power driver output. A minimum series gate resistor of 3.9 ohm is recommended to limit the gate drive current when operating with high-bias voltages.", 7 VDD (power) "The power input connection for this device. This pin is shunt regulated at 17.5 V which is sufficiently below the voltage rating of the DMOS output driver stage. VDD should be bypassed with a 1-uF ceramic capacitor.", 8 REF (out) "The internal 5-V reference output. This reference is buffered and is available on the REF pin. The REF pin should be bypassed with a 0.47-uF ceramic capacitor to GND."